# Altium footprint library ICs.PcbLib: 22 footprints (part 1 of 2)
Each footprint in its own frame and in the unit in brackets; x right, y up, seen from the top. Pads: shape width x height; smd on the part's side, far side on the other; paste and mask are expansions set on the pad; w line width, h text height; cw(c..) or ccw(c..) is an arc to the next point about the centre after c.
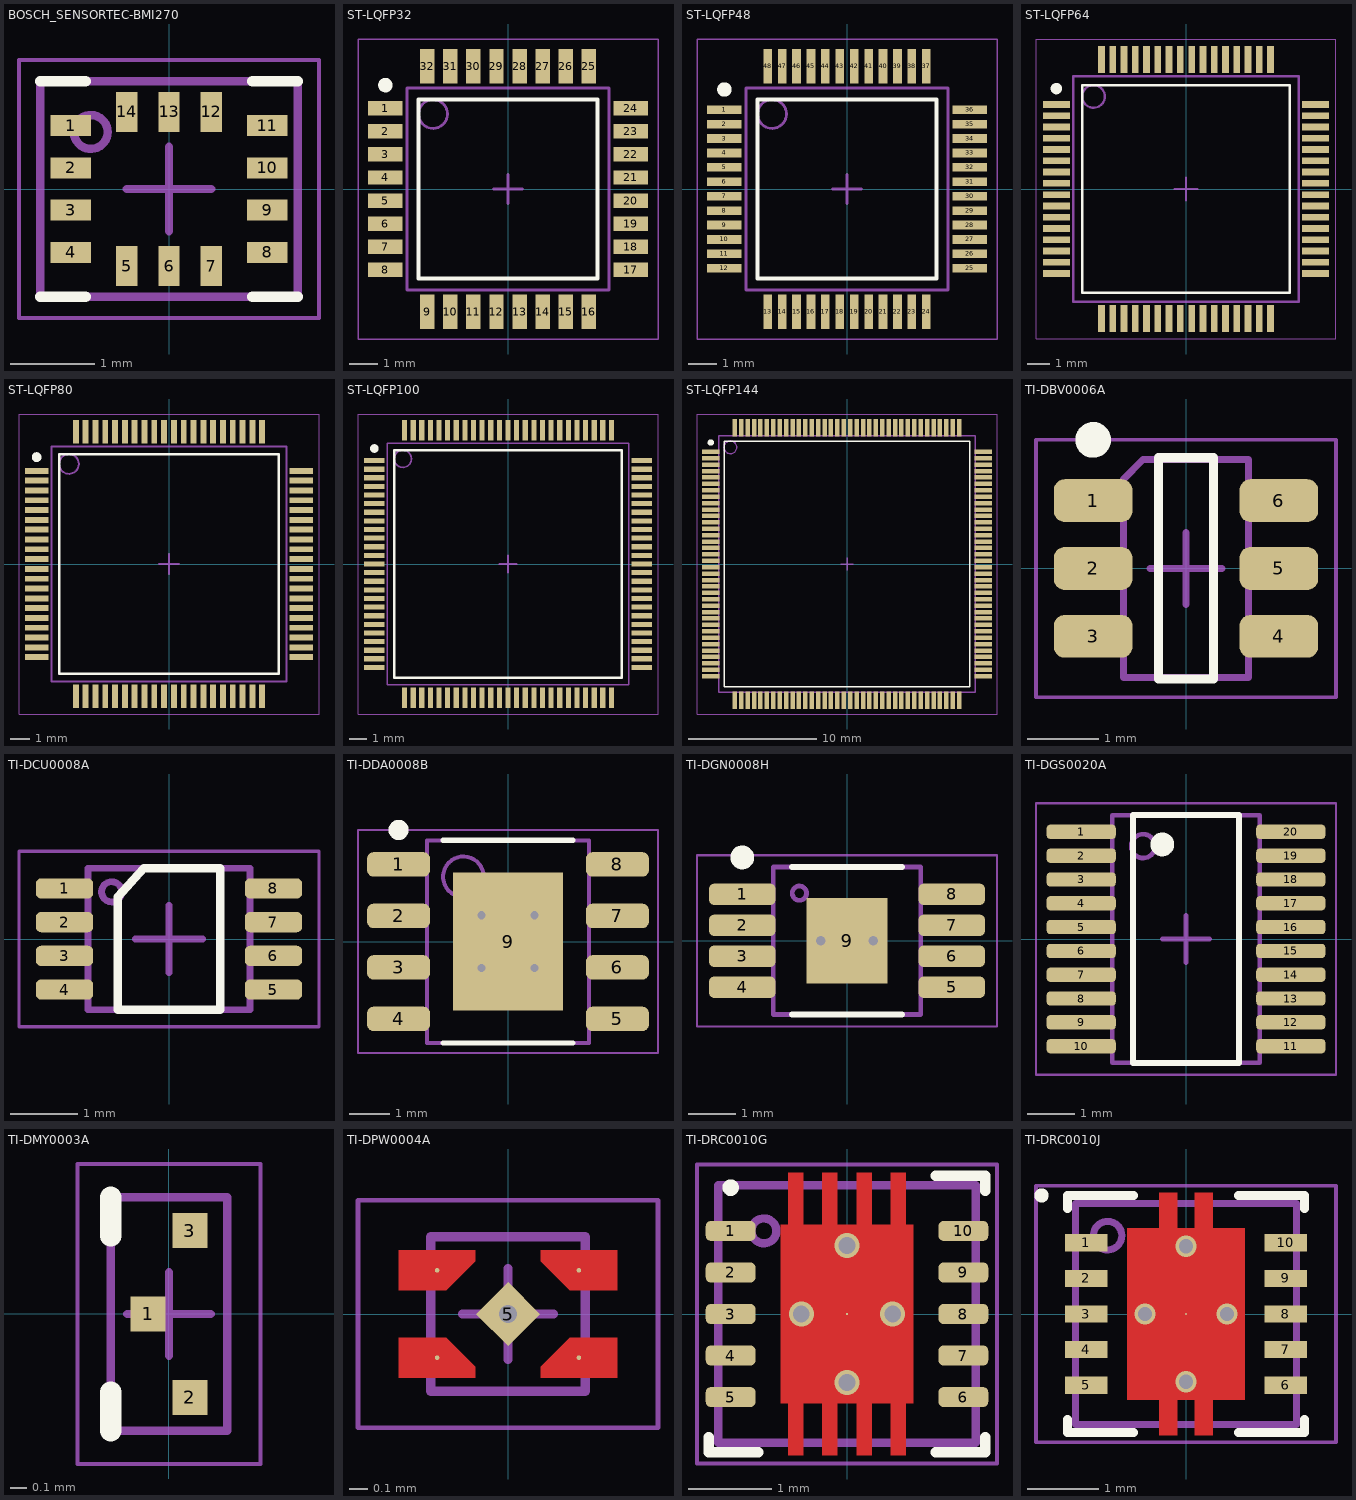
[diagram p0: the footprints below, top view; thin cyan lines are the x and y axes]

## BOSCH_SENSORTEC-BMI270 [mm] "6-axis, smart, low power Inertial Measurement Unit"
height 0.87
pads (14):
  rect 0.475x0.25 smd mask+0.05: 1(-1.162,0.75) 2(-1.162,0.25) 3(-1.162,-0.25) 4(-1.162,-0.75) 8(1.162,-0.75) 9(1.162,-0.25) 10(1.162,0.25) 11(1.162,0.75)
  rect 0.25x0.475 smd mask+0.05: 5(-0.5,-0.913) 6(0,-0.913) 7(0.5,-0.913) 12(0.5,0.913) 13(0,0.913) 14(-0.5,0.913)
Top Overlay:
  lines w0.127: -1.525,-1.275 -0.988,-1.275 ; -1.525,1.275 -0.988,1.275 ; 0.988,-1.275 1.525,-1.275 ; 0.988,1.275 1.525,1.275
Top Assembly:
  circle w0.1: c-0.925,0.675 r0.2
  lines w0.1: -1.525,-1.275 -1.525,1.275 1.525,1.275 1.525,-1.275 -1.525,-1.275
  text ".Designator" at -1.349,-0.135 h0.6
Top Courtyard:
  lines w0.05: -1.775,-1.525 -1.775,1.525 1.775,1.525 1.775,-1.525 -1.775,-1.525
  lines w0.1: -0.5,0 0.5,0 ; 0,-0.5 0,0.5
3D body "PQFN50P300X250X87-14N.step": height 0.87, standoff 0, extent -1.525,-1.275 1.525,1.275

## ST-LQFP32 [mm] "STM32G431KB"
height 1.6
pads (32):
  rect 1.2x0.5 smd mask+0.07: 1(-4.25,2.8) 2(-4.25,2) 3(-4.25,1.2) 4(-4.25,0.4) 5(-4.25,-0.4) 6(-4.25,-1.2) 7(-4.25,-2) 8(-4.25,-2.8) 17(4.25,-2.8) 18(4.25,-2) 19(4.25,-1.2) 20(4.25,-0.4) 21(4.25,0.4) 22(4.25,1.2) 23(4.25,2) 24(4.25,2.8)
  rect 0.5x1.2 smd mask+0.07: 9(-2.8,-4.25) 10(-2,-4.25) 11(-1.2,-4.25) 12(-0.4,-4.25) 13(0.4,-4.25) 14(1.2,-4.25) 15(2,-4.25) 16(2.8,-4.25) 25(2.8,4.25) 26(2,4.25) 27(1.2,4.25) 28(0.4,4.25) 29(-0.4,4.25) 30(-1.2,4.25) 31(-2,4.25) 32(-2.8,4.25)
Top Overlay:
  circle w0.25: c-4.25,3.6 r0.125
  lines w0.127: -3.1,-3.1 -3.1,3.1 3.1,3.1 3.1,-3.1 -3.1,-3.1
Top Assembly:
  circle w0.1: c-2.6,2.6 r0.5
  lines w0.1: -3.5,-3.5 -3.5,3.5 3.5,3.5 3.5,-3.5 -3.5,-3.5
  text ".Designator" at -2.252,-0.226 h1
Top Courtyard:
  lines w0.05: -5.2,-5.2 -5.2,5.2 5.2,5.2 5.2,-5.2 -5.2,-5.2
  lines w0.1: -0.5,0 0.5,0 ; 0,-0.5 0,0.5
3D body "TQFP80P900X900X160-32N.step": height 1.6, standoff 0, extent -4.5,-4.5 4.5,4.5

## ST-LQFP48 [mm]
height 1.6
pads (48):
  rect 1.2x0.3 smd mask+0.07: 1(-4.25,2.75) 2(-4.25,2.25) 3(-4.25,1.75) 4(-4.25,1.25) 5(-4.25,0.75) 6(-4.25,0.25) 7(-4.25,-0.25) 8(-4.25,-0.75) 9(-4.25,-1.25) 10(-4.25,-1.75) 11(-4.25,-2.25) 12(-4.25,-2.75) 25(4.25,-2.75) 26(4.25,-2.25) 27(4.25,-1.75) 28(4.25,-1.25) 29(4.25,-0.75) 30(4.25,-0.25) 31(4.25,0.25) 32(4.25,0.75) 33(4.25,1.25) 34(4.25,1.75) 35(4.25,2.25) 36(4.25,2.75)
  rect 0.3x1.2 smd mask+0.07: 13(-2.75,-4.25) 14(-2.25,-4.25) 15(-1.75,-4.25) 16(-1.25,-4.25) 17(-0.75,-4.25) 18(-0.25,-4.25) 19(0.25,-4.25) 20(0.75,-4.25) 21(1.25,-4.25) 22(1.75,-4.25) 23(2.25,-4.25) 24(2.75,-4.25) 37(2.75,4.25) 38(2.25,4.25) 39(1.75,4.25) 40(1.25,4.25) 41(0.75,4.25) 42(0.25,4.25) 43(-0.25,4.25) 44(-0.75,4.25) 45(-1.25,4.25) 46(-1.75,4.25) 47(-2.25,4.25) 48(-2.75,4.25)
Top Overlay:
  circle w0.25: c-4.25,3.45 r0.125
  lines w0.127: -3.1,-3.1 3.1,-3.1 3.1,3.1 -3.1,3.1 -3.1,-3.1
Top Assembly:
  circle w0.1: c-2.6,2.6 r0.5
  lines w0.1: -3.5,-3.5 3.5,-3.5 3.5,3.5 -3.5,3.5 -3.5,-3.5
  text ".Designator" at -2.252,-0.226 h1
Top Courtyard:
  lines w0.05: -5.2,-5.2 5.2,-5.2 5.2,5.2 -5.2,5.2 -5.2,-5.2
  lines w0.1: -0.5,0 0.5,0 ; 0,-0.5 0,0.5
3D body "TSQFP50P900X900X160-48N.step": height 1.6, standoff 0, extent -4.5,-4.5 4.5,4.5

## ST-LQFP64 [mm] "STM32L053R8, STM32G431RB"
height 1.6
pads (64):
  rect 1.2x0.3 smd mask+0.07: 1(-5.75,3.75) 2(-5.75,3.25) 3(-5.75,2.75) 4(-5.75,2.25) 5(-5.75,1.75) 6(-5.75,1.25) 7(-5.75,0.75) 8(-5.75,0.25) 9(-5.75,-0.25) 10(-5.75,-0.75) 11(-5.75,-1.25) 12(-5.75,-1.75) 13(-5.75,-2.25) 14(-5.75,-2.75) 15(-5.75,-3.25) 16(-5.75,-3.75) 33(5.75,-3.75) 34(5.75,-3.25) 35(5.75,-2.75) 36(5.75,-2.25) 37(5.75,-1.75) 38(5.75,-1.25) 39(5.75,-0.75) 40(5.75,-0.25) 41(5.75,0.25) 42(5.75,0.75) 43(5.75,1.25) 44(5.75,1.75) 45(5.75,2.25) 46(5.75,2.75) 47(5.75,3.25) 48(5.75,3.75)
  rect 0.3x1.2 smd mask+0.07: 17(-3.75,-5.75) 18(-3.25,-5.75) 19(-2.75,-5.75) 20(-2.25,-5.75) 21(-1.75,-5.75) 22(-1.25,-5.75) 23(-0.75,-5.75) 24(-0.25,-5.75) 25(0.25,-5.75) 26(0.75,-5.75) 27(1.25,-5.75) 28(1.75,-5.75) 29(2.25,-5.75) 30(2.75,-5.75) 31(3.25,-5.75) 32(3.75,-5.75) 49(3.75,5.75) 50(3.25,5.75) 51(2.75,5.75) 52(2.25,5.75) 53(1.75,5.75) 54(1.25,5.75) 55(0.75,5.75) 56(0.25,5.75) 57(-0.25,5.75) 58(-0.75,5.75) 59(-1.25,5.75) 60(-1.75,5.75) 61(-2.25,5.75) 62(-2.75,5.75) 63(-3.25,5.75) 64(-3.75,5.75)
Top Overlay:
  circle w0.25: c-5.75,4.45 r0.125
  lines w0.127: -4.6,-4.6 4.6,-4.6 4.6,4.6 -4.6,4.6 -4.6,-4.6
Top Assembly:
  circle w0.1: c-4.1,4.1 r0.5
  lines w0.1: -5,-5 5,-5 5,5 -5,5 -5,-5
  text ".Designator" at -2.252,-0.226 h1
Top Courtyard:
  lines w0.05: -6.65,-6.65 6.65,-6.65 6.65,6.65 -6.65,6.65 -6.65,-6.65
  lines w0.1: -0.5,0 0.5,0 ; 0,-0.5 0,0.5
3D body "TSQFP50P1200X1200X160-64N.step": height 1.6, standoff 0, extent -6,-6 6,6

## ST-LQFP80 [mm]
height 1.6
pads (80):
  rect 1.2x0.3 smd mask+0.07: 1(-6.75,4.75) 2(-6.75,4.25) 3(-6.75,3.75) 4(-6.75,3.25) 5(-6.75,2.75) 6(-6.75,2.25) 7(-6.75,1.75) 8(-6.75,1.25) 9(-6.75,0.75) 10(-6.75,0.25) 11(-6.75,-0.25) 12(-6.75,-0.75) 13(-6.75,-1.25) 14(-6.75,-1.75) 15(-6.75,-2.25) 16(-6.75,-2.75) 17(-6.75,-3.25) 18(-6.75,-3.75) 19(-6.75,-4.25) 20(-6.75,-4.75) 41(6.75,-4.75) 42(6.75,-4.25) 43(6.75,-3.75) 44(6.75,-3.25) 45(6.75,-2.75) 46(6.75,-2.25) 47(6.75,-1.75) 48(6.75,-1.25) 49(6.75,-0.75) 50(6.75,-0.25) 51(6.75,0.25) 52(6.75,0.75) 53(6.75,1.25) 54(6.75,1.75) 55(6.75,2.25) 56(6.75,2.75) 57(6.75,3.25) 58(6.75,3.75) 59(6.75,4.25) 60(6.75,4.75)
  rect 0.3x1.2 smd mask+0.07: 21(-4.75,-6.75) 22(-4.25,-6.75) 23(-3.75,-6.75) 24(-3.25,-6.75) 25(-2.75,-6.75) 26(-2.25,-6.75) 27(-1.75,-6.75) 28(-1.25,-6.75) 29(-0.75,-6.75) 30(-0.25,-6.75) 31(0.25,-6.75) 32(0.75,-6.75) 33(1.25,-6.75) 34(1.75,-6.75) 35(2.25,-6.75) 36(2.75,-6.75) 37(3.25,-6.75) 38(3.75,-6.75) 39(4.25,-6.75) 40(4.75,-6.75) 61(4.75,6.75) 62(4.25,6.75) 63(3.75,6.75) 64(3.25,6.75) 65(2.75,6.75) 66(2.25,6.75) 67(1.75,6.75) 68(1.25,6.75) 69(0.75,6.75) 70(0.25,6.75) 71(-0.25,6.75) 72(-0.75,6.75) 73(-1.25,6.75) 74(-1.75,6.75) 75(-2.25,6.75) 76(-2.75,6.75) 77(-3.25,6.75) 78(-3.75,6.75) 79(-4.25,6.75) 80(-4.75,6.75)
Top Overlay:
  circle w0.25: c-6.75,5.45 r0.125
  lines w0.127: -5.6,-5.6 -5.6,5.6 5.6,5.6 5.6,-5.6 -5.6,-5.6
Top Assembly:
  circle w0.1: c-5.1,5.1 r0.5
  lines w0.1: -6,-6 -6,6 6,6 6,-6 -6,-6
  text ".Designator" at -2.252,-0.226 h1
Top Courtyard:
  lines w0.05: -7.65,-7.65 -7.65,7.65 7.65,7.65 7.65,-7.65 -7.65,-7.65
  lines w0.1: -0.5,0 0.5,0 ; 0,-0.5 0,0.5
3D body "TSQFP50P1400X1400X160-80N.step": height 1.6, standoff 0, extent -7,-7 7,7

## ST-LQFP100 [mm]
height 1.6
pads (100):
  rect 1.2x0.3 smd mask+0.07: 1(-7.75,6) 2(-7.75,5.5) 3(-7.75,5) 4(-7.75,4.5) 5(-7.75,4) 6(-7.75,3.5) 7(-7.75,3) 8(-7.75,2.5) 9(-7.75,2) 10(-7.75,1.5) 11(-7.75,1) 12(-7.75,0.5) 13(-7.75,0) 14(-7.75,-0.5) 15(-7.75,-1) 16(-7.75,-1.5) 17(-7.75,-2) 18(-7.75,-2.5) 19(-7.75,-3) 20(-7.75,-3.5) 21(-7.75,-4) 22(-7.75,-4.5) 23(-7.75,-5) 24(-7.75,-5.5) 25(-7.75,-6) 51(7.75,-6) 52(7.75,-5.5) 53(7.75,-5) 54(7.75,-4.5) 55(7.75,-4) 56(7.75,-3.5) 57(7.75,-3) 58(7.75,-2.5) 59(7.75,-2) 60(7.75,-1.5) 61(7.75,-1) 62(7.75,-0.5) 63(7.75,0) 64(7.75,0.5) 65(7.75,1) 66(7.75,1.5) 67(7.75,2) 68(7.75,2.5) 69(7.75,3) 70(7.75,3.5) 71(7.75,4) 72(7.75,4.5) 73(7.75,5) 74(7.75,5.5) 75(7.75,6)
  rect 0.3x1.2 smd mask+0.07: 26(-6,-7.75) 27(-5.5,-7.75) 28(-5,-7.75) 29(-4.5,-7.75) 30(-4,-7.75) 31(-3.5,-7.75) 32(-3,-7.75) 33(-2.5,-7.75) 34(-2,-7.75) 35(-1.5,-7.75) 36(-1,-7.75) 37(-0.5,-7.75) 38(0,-7.75) 39(0.5,-7.75) 40(1,-7.75) 41(1.5,-7.75) 42(2,-7.75) 43(2.5,-7.75) 44(3,-7.75) 45(3.5,-7.75) 46(4,-7.75) 47(4.5,-7.75) 48(5,-7.75) 49(5.5,-7.75) 50(6,-7.75) 76(6,7.75) 77(5.5,7.75) 78(5,7.75) 79(4.5,7.75) 80(4,7.75) 81(3.5,7.75) 82(3,7.75) 83(2.5,7.75) 84(2,7.75) 85(1.5,7.75) 86(1,7.75) 87(0.5,7.75) 88(0,7.75) 89(-0.5,7.75) 90(-1,7.75) 91(-1.5,7.75) 92(-2,7.75) 93(-2.5,7.75) 94(-3,7.75) 95(-3.5,7.75) 96(-4,7.75) 97(-4.5,7.75) 98(-5,7.75) 99(-5.5,7.75) 100(-6,7.75)
Top Overlay:
  circle w0.25: c-7.75,6.7 r0.125
  lines w0.127: -6.6,-6.6 -6.6,6.6 6.6,6.6 6.6,-6.6 -6.6,-6.6
Top Assembly:
  circle w0.1: c-6.1,6.1 r0.5
  lines w0.1: -7,-7 -7,7 7,7 7,-7 -7,-7
  text ".Designator" at -2.252,-0.226 h1
Top Courtyard:
  lines w0.05: -8.7,-8.7 -8.7,8.7 8.7,8.7 8.7,-8.7 -8.7,-8.7
  lines w0.1: -0.5,0 0.5,0 ; 0,-0.5 0,0.5
3D body "TSQFP50P1600X1600X160-100N.step": height 1.6, standoff 0, extent -8,-8 8,8

## ST-LQFP144 [mm] "STM32F207ZG"
height 1.6
pads (144):
  rect 1.35x0.35 smd mask+0.07: 1(-10.625,8.75) 2(-10.625,8.25) 3(-10.625,7.75) 4(-10.625,7.25) 5(-10.625,6.75) 6(-10.625,6.25) 7(-10.625,5.75) 8(-10.625,5.25) 9(-10.625,4.75) 10(-10.625,4.25) 11(-10.625,3.75) 12(-10.625,3.25) 13(-10.625,2.75) 14(-10.625,2.25) 15(-10.625,1.75) 16(-10.625,1.25) 17(-10.625,0.75) 18(-10.625,0.25) 19(-10.625,-0.25) 20(-10.625,-0.75) 21(-10.625,-1.25) 22(-10.625,-1.75) 23(-10.625,-2.25) 24(-10.625,-2.75) 25(-10.625,-3.25) 26(-10.625,-3.75) 27(-10.625,-4.25) 28(-10.625,-4.75) 29(-10.625,-5.25) 30(-10.625,-5.75) 31(-10.625,-6.25) 32(-10.625,-6.75) 33(-10.625,-7.25) 34(-10.625,-7.75) 35(-10.625,-8.25) 36(-10.625,-8.75) 73(10.625,-8.75) 74(10.625,-8.25) 75(10.625,-7.75) 76(10.625,-7.25) 77(10.625,-6.75) 78(10.625,-6.25) 79(10.625,-5.75) 80(10.625,-5.25) 81(10.625,-4.75) 82(10.625,-4.25) 83(10.625,-3.75) 84(10.625,-3.25) 85(10.625,-2.75) 86(10.625,-2.25) 87(10.625,-1.75) 88(10.625,-1.25) 89(10.625,-0.75) 90(10.625,-0.25) 91(10.625,0.25) 92(10.625,0.75) 93(10.625,1.25) 94(10.625,1.75) 95(10.625,2.25) 96(10.625,2.75) 97(10.625,3.25) 98(10.625,3.75) 99(10.625,4.25) 100(10.625,4.75) 101(10.625,5.25) 102(10.625,5.75) 103(10.625,6.25) 104(10.625,6.75) 105(10.625,7.25) 106(10.625,7.75) 107(10.625,8.25) 108(10.625,8.75)
  rect 0.35x1.35 smd mask+0.07: 37(-8.75,-10.625) 38(-8.25,-10.625) 39(-7.75,-10.625) 40(-7.25,-10.625) 41(-6.75,-10.625) 42(-6.25,-10.625) 43(-5.75,-10.625) 44(-5.25,-10.625) 45(-4.75,-10.625) 46(-4.25,-10.625) 47(-3.75,-10.625) 48(-3.25,-10.625) 49(-2.75,-10.625) 50(-2.25,-10.625) 51(-1.75,-10.625) 52(-1.25,-10.625) 53(-0.75,-10.625) 54(-0.25,-10.625) 55(0.25,-10.625) 56(0.75,-10.625) 57(1.25,-10.625) 58(1.75,-10.625) 59(2.25,-10.625) 60(2.75,-10.625) 61(3.25,-10.625) 62(3.75,-10.625) 63(4.25,-10.625) 64(4.75,-10.625) 65(5.25,-10.625) 66(5.75,-10.625) 67(6.25,-10.625) 68(6.75,-10.625) 69(7.25,-10.625) 70(7.75,-10.625) 71(8.25,-10.625) 72(8.75,-10.625) 109(8.75,10.625) 110(8.25,10.625) 111(7.75,10.625) 112(7.25,10.625) 113(6.75,10.625) 114(6.25,10.625) 115(5.75,10.625) 116(5.25,10.625) 117(4.75,10.625) 118(4.25,10.625) 119(3.75,10.625) 120(3.25,10.625) 121(2.75,10.625) 122(2.25,10.625) 123(1.75,10.625) 124(1.25,10.625) 125(0.75,10.625) 126(0.25,10.625) 127(-0.25,10.625) 128(-0.75,10.625) 129(-1.25,10.625) 130(-1.75,10.625) 131(-2.25,10.625) 132(-2.75,10.625) 133(-3.25,10.625) 134(-3.75,10.625) 135(-4.25,10.625) 136(-4.75,10.625) 137(-5.25,10.625) 138(-5.75,10.625) 139(-6.25,10.625) 140(-6.75,10.625) 141(-7.25,10.625) 142(-7.75,10.625) 143(-8.25,10.625) 144(-8.75,10.625)
Top Overlay:
  circle w0.25: c-10.625,9.475 r0.125
  lines w0.127: -9.587,-9.586 9.587,-9.586 9.587,9.586 -9.587,9.586 -9.587,-9.586
Top Assembly:
  circle w0.1: c-9.1,9.1 r0.5
  lines w0.1: -10,-10 10,-10 10,10 -10,10 -10,-10
  text ".Designator" at -2.252,-0.226 h1
Top Courtyard:
  lines w0.05: -11.7,-11.7 11.7,-11.7 11.7,11.7 -11.7,11.7 -11.7,-11.7
  lines w0.1: -0.5,0 0.5,0 ; 0,-0.5 0,0.5
3D body "TSQFP50P2200X2200X160-144N.step": height 1.6, standoff 0, extent -11,-11 11,11

## TI-DBV0006A [mm] "TLV61070A"
height 1.45
pads (6):
  rrect50% 1.1x0.6 smd mask+0.07: 1(-1.3,0.95) 2(-1.3,0) 3(-1.3,-0.95) 4(1.3,-0.95) 5(1.3,0) 6(1.3,0.95)
Top Overlay:
  circle w0.25: c-1.3,1.8 r0.125
  lines w0.127: -0.387,-1.55 0.387,-1.55 0.387,1.55 -0.387,1.55 -0.387,-1.55
Top Assembly:
  lines w0.1: -0.875,-1.525 0.875,-1.525 0.875,1.525 -0.6,1.525 -0.875,1.25 -0.875,-1.525
  text ".Designator" at -0.135,1.349 h0.6
Top Courtyard:
  lines w0.05: -2.1,-1.8 -2.1,1.8 2.1,1.8 2.1,-1.8 -2.1,-1.8
  lines w0.1: -0.5,0 0.5,0 ; 0,-0.5 0,0.5
3D body "SOT95P280X145-6N.step": height 1.45, standoff 0, extent -1.5,-1.525 1.5,1.525

## TI-DCU0008A [mm] "TXS0102V-Q1"
height 0.9
pads (8):
  rrect50% 0.85x0.3 smd mask+0.05: 1(-1.55,0.75) 2(-1.55,0.25) 3(-1.55,-0.25) 4(-1.55,-0.75) 5(1.55,-0.75) 6(1.55,-0.25) 7(1.55,0.25) 8(1.55,0.75)
Top Overlay:
  lines w0.127: -0.761,-1.05 0.761,-1.05 0.761,1.05 -0.375,1.05 -0.761,0.625 -0.761,-1.05
Top Assembly:
  circle w0.1: c-0.85,0.7 r0.15
  lines w0.1: -1.2,-1.05 -1.2,1.05 1.2,1.05 1.2,-1.05 -1.2,-1.05
  text ".Designator" at -0.897,-0.09 h0.4
Top Courtyard:
  lines w0.05: -2.225,-1.3 -2.225,1.3 2.225,1.3 2.225,-1.3 -2.225,-1.3
  lines w0.1: -0.5,0 0.5,0 ; 0,-0.5 0,0.5
3D body "TSSOP50P310X90-8N.step": height 0.9, standoff 0, extent -1.549,-1.05 1.549,1.05

## TI-DDA0008B [mm] "LMR38020-Q1"
height 1.7
pads (9):
  rrect50% 1.55x0.6 smd mask+0.07: 1(-2.7,1.905) 2(-2.7,0.635) 3(-2.7,-0.635) 4(-2.7,-1.905) 5(2.7,-1.905) 6(2.7,-0.635) 7(2.7,0.635) 8(2.7,1.905)
  rect 2.71x3.4 smd mask+0.07: 9(0,0)
via 0.65,-0.65 diameter 0.4 hole 0.2
via -0.65,-0.65 diameter 0.4 hole 0.2
via 0.65,0.65 diameter 0.4 hole 0.2
via -0.65,0.65 diameter 0.4 hole 0.2
Top Overlay:
  circle w0.25: c-2.7,2.755 r0.125
  lines w0.127: -1.6,-2.5 1.6,-2.5 ; -1.6,2.5 1.6,2.5
Top Assembly:
  circle w0.1: c-1.1,1.6 r0.5
  lines w0.1: -2,-2.5 -2,2.5 2,2.5 2,-2.5 -2,-2.5
  text ".Designator" at -1.801,-0.181 h0.8
Top Courtyard:
  lines w0.05: -3.7,-2.75 -3.7,2.75 3.7,2.75 3.7,-2.75 -3.7,-2.75
  lines w0.1: -0.5,0 0.5,0 ; 0,-0.5 0,0.5
3D body "SOIC127P600X170_HS-9N.step": height 1.7, standoff 0, extent -3,-2.5 3,2.5

## TI-DGN0008H [mm] "UCC27444"
height 1.1
pads (9):
  rrect50% 1.4x0.45 smd mask+0.05: 1(-2.2,0.975) 2(-2.2,0.325) 3(-2.2,-0.325) 4(-2.2,-0.975) 5(2.2,-0.975) 6(2.2,-0.325) 7(2.2,0.325) 8(2.2,0.975)
  rect 1.71x1.8 smd mask+0.05: 9(0,0)
via -0.55,0 diameter 0.4 hole 0.2
via 0.55,0 diameter 0.4 hole 0.2
Top Overlay:
  circle w0.25: c-2.2,1.75 r0.125
  lines w0.127: -1.15,-1.55 1.15,-1.55 ; -1.15,1.55 1.15,1.55
Top Assembly:
  circle w0.1: c-1,1 r0.15
  lines w0.1: -1.55,-1.55 -1.55,1.55 1.55,1.55 1.55,-1.55 -1.55,-1.55
  text ".Designator" at -1.126,-0.113 h0.5
Top Courtyard:
  lines w0.05: -3.15,-1.8 -3.15,1.8 3.15,1.8 3.15,-1.8 -3.15,-1.8
  lines w0.1: -0.5,0 0.5,0 ; 0,-0.5 0,0.5
3D body "TSOP65P490X110_HS-9N.step": height 1.1, standoff 0, extent -2.45,-1.55 2.45,1.55

## TI-DGS0020A [mm] "TXS0108E-Q1"
height 1.1
pads (20):
  rrect50% 1.45x0.3 smd mask+0.05: 1(-2.2,2.25) 2(-2.2,1.75) 3(-2.2,1.25) 4(-2.2,0.75) 5(-2.2,0.25) 6(-2.2,-0.25) 7(-2.2,-0.75) 8(-2.2,-1.25) 9(-2.2,-1.75) 10(-2.2,-2.25) 11(2.2,-2.25) 12(2.2,-1.75) 13(2.2,-1.25) 14(2.2,-0.75) 15(2.2,-0.25) 16(2.2,0.25) 17(2.2,0.75) 18(2.2,1.25) 19(2.2,1.75) 20(2.2,2.25)
Top Overlay:
  circle w0.25: c-0.498,1.986 r0.125
  lines w0.127: -1.111,-2.6 1.111,-2.6 1.111,2.6 -1.111,2.6 -1.111,-2.6
Top Assembly:
  circle w0.1: c-0.9,1.95 r0.25
  lines w0.1: -1.55,-2.6 1.55,-2.6 1.55,2.6 -1.55,2.6 -1.55,-2.6
  text ".Designator" at -1.349,-0.135 h0.6
Top Courtyard:
  lines w0.05: -3.15,-2.85 3.15,-2.85 3.15,2.85 -3.15,2.85 -3.15,-2.85
  lines w0.1: -0.5,0 0.5,0 ; 0,-0.5 0,0.5
3D body "TSSOP50P490X110-20N.step": height 1.1, standoff 0, extent -2.45,-2.6 2.45,2.6

## TI-DMY0003A [mm] "ESD122"
height 0.4
pads (3):
  rect 0.21x0.21 smd mask+0.05: 1(-0.125,0) 2(0.125,-0.5) 3(0.125,0.5)
Top Overlay:
  lines w0.127: -0.35,-0.7 -0.35,-0.468 ; -0.35,0.468 -0.35,0.7
Top Assembly:
  lines w0.05: -0.35,-0.7 0.35,-0.7 0.35,0.7 -0.35,0.7 -0.35,-0.7
  text ".Designator" at 0.045,-0.451 h0.2
Top Courtyard:
  lines w0.025: -0.55,-0.9 -0.55,0.9 0.55,0.9 0.55,-0.9 -0.55,-0.9
  lines w0.05: -0.25,0 0.25,0 ; 0,-0.25 0,0.25
3D body "DMY0003A.stp": height 0.36, standoff 0, extent -0.3,-0.65 0.3,0.65

## TI-DPW0004A [mm] "TPD4E6B06"
height 0.4
pads (5):
  round 0.025 smd mask+0.05: 1(-0.39,0.24) 2(-0.39,-0.24) 3(0.39,-0.24) 4(0.39,0.24)
  rect 0.25x0.25 smd rot 45 mask+0.05: 5(0,0)
via 0,0 diameter 0.2 hole 0.1
Top Layer:
  region: 0.18,-0.35 0.6,-0.35 0.6,-0.13 0.34,-0.13 0.18,-0.29
  region: -0.18,0.35 -0.6,0.35 -0.6,0.13 -0.34,0.13 -0.18,0.29
  region: -0.18,-0.35 -0.6,-0.35 -0.6,-0.13 -0.34,-0.13 -0.18,-0.29
  region: 0.18,0.35 0.6,0.35 0.6,0.13 0.34,0.13 0.18,0.29
Top Assembly:
  lines w0.05: -0.425,-0.425 0.425,-0.425 0.425,0.425 -0.425,0.425 -0.425,-0.425
  text ".Designator" at -0.451,-0.045 h0.2
Top Courtyard:
  lines w0.025: -0.825,-0.625 0.825,-0.625 0.825,0.625 -0.825,0.625 -0.825,-0.625
  lines w0.05: -0.25,0 0.25,0 ; 0,-0.25 0,0.25
3D body "DPW0004A.stp": height 0.4, standoff 0, extent -0.4,-0.4 0.4,0.4

## TI-DRC0010G [mm] "TPS61232"
height 1
pads (11):
  rrect50% 0.6x0.24 smd mask+0.07: 1(-1.4,1) 2(-1.4,0.5) 3(-1.4,0) 4(-1.4,-0.5) 5(-1.4,-1) 6(1.4,-1) 7(1.4,-0.5) 8(1.4,0) 9(1.4,0.5) 10(1.4,1)
  round 0.025 smd paste-0.8 mask+0.07: 11(0,0)
via 0,0.825 diameter 0.3 hole 0.2
via 0,-0.825 diameter 0.3 hole 0.2
via -0.55,0 diameter 0.3 hole 0.2
via 0.55,0 diameter 0.3 hole 0.2
Top Layer:
  region: -0.8,1.075 -0.705,1.075 -0.705,1.7 -0.525,1.7 -0.525,1.075 -0.295,1.075 -0.295,1.7 -0.115,1.7 -0.115,1.075 0.115,1.075 0.115,1.7 0.295,1.7 0.295,1.075 0.525,1.075 0.525,1.7 0.705,1.7 0.705,1.075 0.8,1.075 0.8,-1.075 0.705,-1.075 0.705,-1.7 0.525,-1.7 0.525,-1.075 0.295,-1.075 0.295,-1.7 0.115,-1.7 0.115,-1.075 -0.115,-1.075 -0.115,-1.7 -0.295,-1.7 -0.295,-1.075 -0.525,-1.075 -0.525,-1.7 -0.705,-1.7 -0.705,-1.075 -0.8,-1.075
Top Overlay:
  circle w0.1: c-1.4,1.52 r0.05
  lines w0.127: -1.663,-1.483 -1.663,-1.663 -1.069,-1.663 ; 1.069,-1.663 1.663,-1.663 1.663,-1.483 ; 1.069,1.663 1.663,1.663 1.663,1.483
Top Paste:
  region: -0.735,-0.115 0.735,-0.115 0.735,-1.075 -0.735,-1.075
  region: 0.295,1.7 0.115,1.7 0.115,1.26 0.295,1.26
  region: -0.295,1.7 -0.115,1.7 -0.115,1.26 -0.295,1.26
  region: 0.525,1.7 0.705,1.7 0.705,1.26 0.525,1.26
  region: -0.525,1.7 -0.705,1.7 -0.705,1.26 -0.525,1.26
  region: -0.525,-1.7 -0.705,-1.7 -0.705,-1.26 -0.525,-1.26
  region: -0.295,-1.7 -0.115,-1.7 -0.115,-1.26 -0.295,-1.26
  region: 0.295,-1.7 0.115,-1.7 0.115,-1.26 0.295,-1.26
  region: 0.525,-1.7 0.705,-1.7 0.705,-1.26 0.525,-1.26
  region: -0.735,1.075 0.735,1.075 0.735,0.115 -0.735,0.115
Top Assembly:
  circle w0.1: c-1,1 r0.15
  lines w0.1: -1.55,-1.55 1.55,-1.55 1.55,1.55 -1.55,1.55 -1.55,-1.55
  text ".Designator" at -1.349,-0.135 h0.6
Top Courtyard:
  lines w0.05: -1.805,-1.8 1.805,-1.8 1.805,1.8 -1.805,1.8 -1.805,-1.8
  lines w0.1: -0.5,0 0.5,0 ; 0,-0.5 0,0.5
3D body "DRC0010G.stp": height 0.77, standoff 0, extent -1.5,-1.5 1.5,1.5

## TI-DRC0010J [mm] "UCC27289"
height 1
pads (11):
  rect 0.6x0.24 smd mask+0.07: 1(-1.4,1) 2(-1.4,0.5) 3(-1.4,0) 4(-1.4,-0.5) 5(-1.4,-1) 6(1.4,-1) 7(1.4,-0.5) 8(1.4,0) 9(1.4,0.5) 10(1.4,1)
  round 0.025 smd paste-0.825 mask+0.07: 11(0,0)
via 0.575,0 diameter 0.3 hole 0.2
via -0.575,0 diameter 0.3 hole 0.2
via 0,0.95 diameter 0.3 hole 0.2
via 0,-0.95 diameter 0.3 hole 0.2
Top Layer:
  region: -0.825,1.2 -0.375,1.2 -0.375,1.7 -0.125,1.7 -0.125,1.2 0.125,1.2 0.125,1.7 0.375,1.7 0.375,1.2 0.825,1.2 0.825,-1.2 0.375,-1.2 0.375,-1.7 0.125,-1.7 0.125,-1.2 -0.125,-1.2 -0.125,-1.7 -0.375,-1.7 -0.375,-1.2 -0.825,-1.2
Top Overlay:
  circle w0.1: c-2.027,1.663 r0.05
  lines w0.127: -1.663,-1.483 -1.663,-1.663 -0.739,-1.663 ; -1.663,1.483 -1.663,1.663 -0.739,1.663 ; 0.739,-1.663 1.663,-1.663 1.663,-1.483 ; 0.739,1.663 1.663,1.663 1.663,1.483
Top Paste:
  rectangle: -0.75,-1.16 0.75,-0.1
  rectangle: -0.75,0.1 0.75,1.16
  rectangle: 0.125,-1.7 0.375,-1.36
  rectangle: -0.375,-1.7 -0.125,-1.36
  rectangle: -0.375,1.36 -0.125,1.7
  rectangle: 0.125,1.36 0.375,1.7
Top Assembly:
  circle w0.1: c-1.1,1.1 r0.2
  lines w0.1: -1.55,-1.55 -1.55,1.55 1.55,1.55 1.55,-1.55 -1.55,-1.55
  text ".Designator" at -1.349,-0.135 h0.6
Top Courtyard:
  lines w0.05: -2.105,-1.8 -2.105,1.8 2.105,1.8 2.105,-1.8 -2.105,-1.8
  lines w0.1: -0.5,0 0.5,0 ; 0,-0.5 0,0.5
3D body "SON50P300X100-10N.step": height 1, standoff 0, extent -1.6,-1.55 1.6,1.55